# EAGLE library part PIC18F46J50 (library Custom_Library)
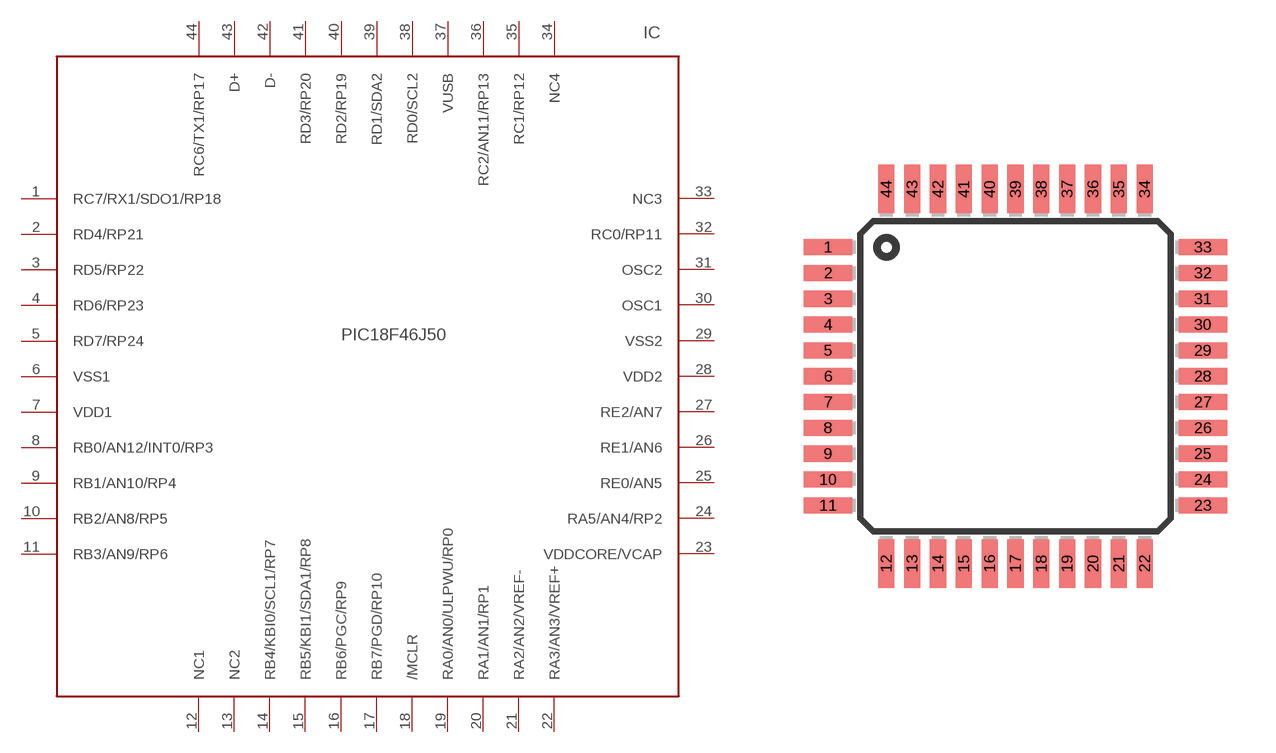
[diagram p16: symbol with the pads of TQFP44; footprint TQFP44]

Designator prefix IC

## PIC18F46J50  [TQFP44]
1  RC7/RX1/SDO1/RP18
2  RD4/RP21
3  RD5/RP22
4  RD6/RP23
5  RD7/RP24
6  VSS1
7  VDD1
8  RB0/AN12/INT0/RP3
9  RB1/AN10/RP4
10  RB2/AN8/RP5
11  RB3/AN9/RP6
12  NC1
13  NC2
14  RB4/KBI0/SCL1/RP7
15  RB5/KBI1/SDA1/RP8
16  RB6/PGC/RP9
17  RB7/PGD/RP10
18  /MCLR
19  RA0/AN0/ULPWU/RP0
20  RA1/AN1/RP1
21  RA2/AN2/VREF-
22  RA3/AN3/VREF+
23  VDDCORE/VCAP
24  RA5/AN4/RP2
25  RE0/AN5
26  RE1/AN6
27  RE2/AN7
28  VDD2
29  VSS2
30  OSC1
31  OSC2
32  RC0/RP11
33  NC3
34  NC4
35  RC1/RP12
36  RC2/AN11/RP13
37  VUSB
38  RD0/SCL2
39  RD1/SDA2
40  RD2/RP19
41  RD3/RP20
42  D-
43  D+
44  RC6/TX1/RP17

## Footprint TQFP44 (pad centres in mm)
smd 1.5 x 0.5: 1 -5.8,4; 2 -5.8,3.2; 3 -5.8,2.4; 4 -5.8,1.6; 5 -5.8,0.8; 6 -5.8,0; 7 -5.8,-0.8; 8 -5.8,-1.6; 9 -5.8,-2.4; 10 -5.8,-3.2; 11 -5.8,-4; 23 5.8,-4; 24 5.8,-3.2; 25 5.8,-2.4; 26 5.8,-1.6; 27 5.8,-0.8; 28 5.8,0; 29 5.8,0.8; 30 5.8,1.6; 31 5.8,2.4; 32 5.8,3.2; 33 5.8,4
smd 0.5 x 1.5: 12 -4,-5.8; 13 -3.2,-5.8; 14 -2.4,-5.8; 15 -1.6,-5.8; 16 -0.8,-5.8; 17 0,-5.8; 18 0.8,-5.8; 19 1.6,-5.8; 20 2.4,-5.8; 21 3.2,-5.8; 22 4,-5.8; 34 4,5.8; 35 3.2,5.8; 36 2.4,5.8; 37 1.6,5.8; 38 0.8,5.8; 39 0,5.8; 40 -0.8,5.8; 41 -1.6,5.8; 42 -2.4,5.8; 43 -3.2,5.8; 44 -4,5.8